# Altium schematic symbol library kmilo17pet-LT_OpAmp_LT1000.SchLib: 2280 symbols (part 31 of 79)
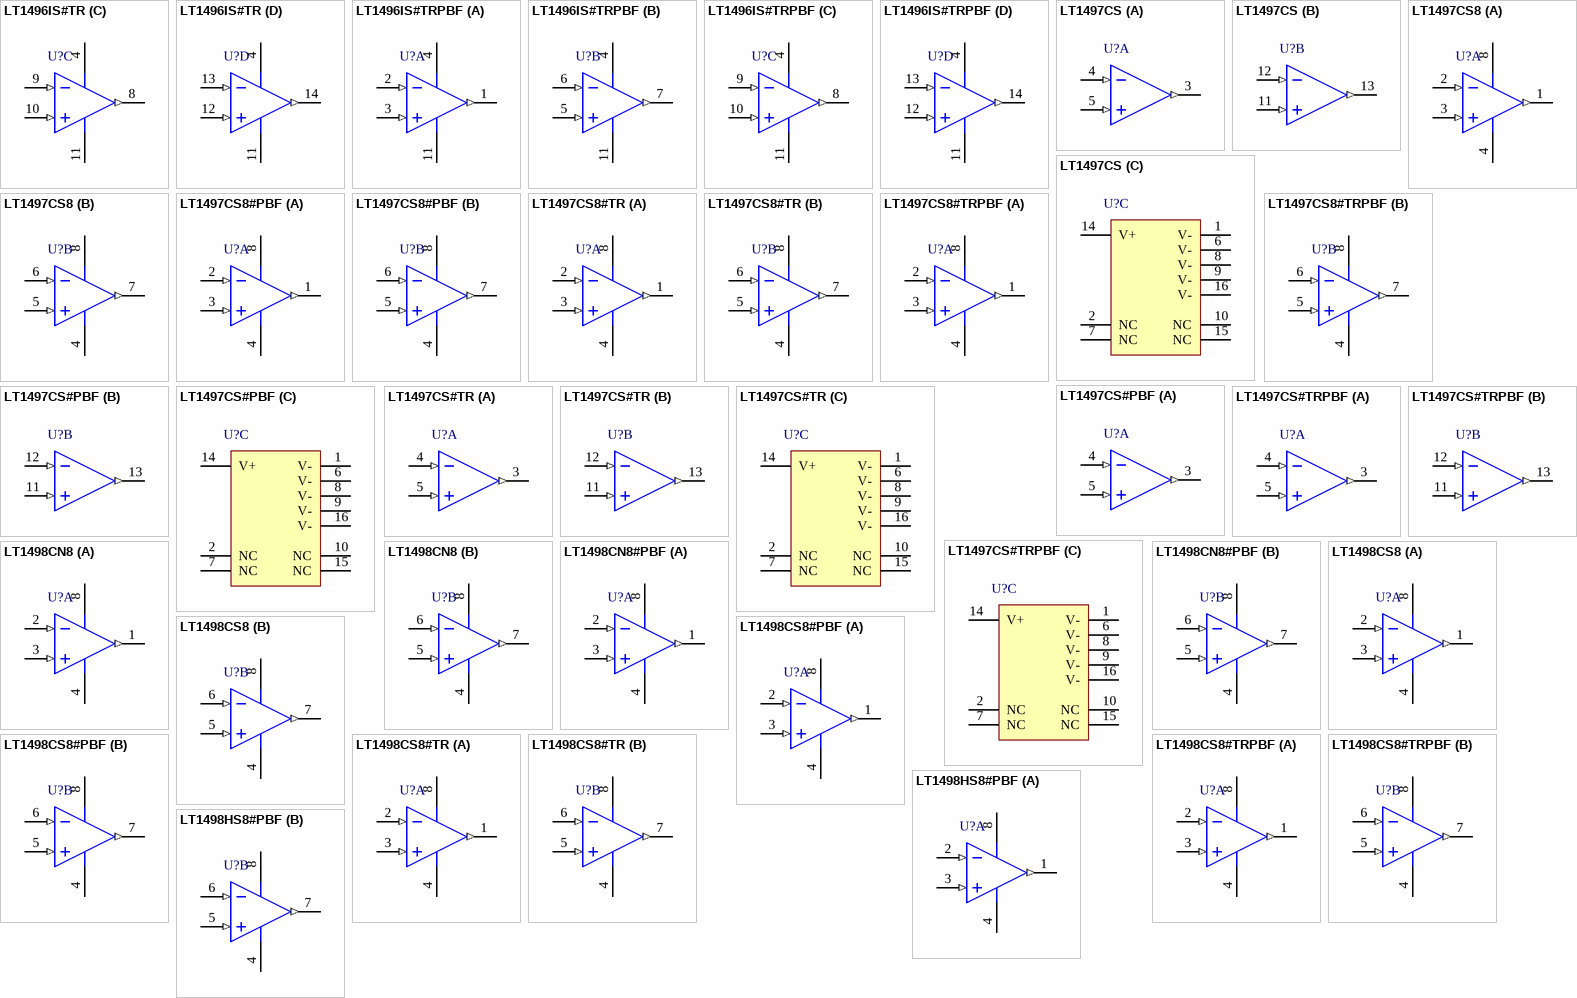
[diagram p135: symbols LT1496IS#TR to LT1498HS8#PBF]

## LT1497CS#PBF
designator U?
Dual Channel, 125 mA Output Current Feedback Amplifier, 59 MHz Typical GBW, 900 V/us Typical SR, 4 to 36 V, 16-Pin SOIC (S-16), Commerical, Pb-Free; Linear Technology Part Number: LT1497; Manufacturer: Linear Technology; PartNumber: LT1497CS#PBF; Channels (#): 2; GBW (MHz) Typical: 59; Is (mA) Typical: 6; SR (V/us) Typical: 900; Vos (mV) Typical: 3; Vs Max (V): 36; Vs Min (V): 4; PackageVersion: Rev G; PackageReference: LT-S-16; PackageDescription: 16-Lead Plastic Small Outline, Body 9.9 x 3.9 mm, Pitch 1.27 mm; Supplier 1: Digi-Key; Supplier Part Number 1: LT1497CS#PBF-ND; Supplier 2: Farnell; Supplier Part Number 2: 1330673; Supplier 3: Newark; Supplier Part Number 3: 57M4552; RoHS: Pb-Free; Type: CFA; Mounting Technology: Surface Mount; ComponentLink1Description: Manufacturer URL; ComponentLink1URL: http://www.linear.com/; ComponentLink2Description: Datasheet; ComponentLink2URL: http://cds.linear.com/docs/en/datasheet/1497f.pdf; ComponentLink3Description: Package Specification; ComponentLink3URL: http://cds.linear.com/docs/en/packaging/S16%2005-08-1610%20Rev%20G.pdf
footprint LT-S-16_N (SOP, 16-Leads, Body 9.9x3.9mm, Pitch 1.27mm, IPC Medium Density)
footprint LT-S-16_L (SOP, 16-Leads, Body 9.9x3.9mm, Pitch 1.27mm, IPC High Density)
footprint LT-S-16_M (SOP, 16-Leads, Body 9.9x3.9mm, Pitch 1.27mm, IPC Low Density)
part A pins: 3 OUT A (out), 4 -IN A (in), 5 +IN A (in)
part B pins: 11 +IN B (in), 12 -IN B (in), 13 OUT B (out)
part C pins: 1 V- (power), 2 NC, 6 V- (power), 7 NC, 8 V- (power), 9 V- (power), 10 NC, 14 V+ (power), 15 NC, 16 V- (power)

## LT1497CS#TR
designator U?
Dual Channel, 125 mA Output Current Feedback Amplifier, 59 MHz Typical GBW, 900 V/us Typical SR, 4 to 36 V, 16-Pin SOIC (S-16), Commerical, Reel; Linear Technology Part Number: LT1497; Manufacturer: Linear Technology; PartNumber: LT1497CS#TR; Channels (#): 2; GBW (MHz) Typical: 59; Is (mA) Typical: 6; SR (V/us) Typical: 900; Vos (mV) Typical: 3; Vs Max (V): 36; Vs Min (V): 4; PackageVersion: Rev G; PackageReference: LT-S-16; PackageDescription: 16-Lead Plastic Small Outline, Body 9.9 x 3.9 mm, Pitch 1.27 mm; Supplier 1: Digi-Key; Supplier Part Number 1: LT1497CS#TR-ND; Packing: Reel; Type: CFA; Mounting Technology: Surface Mount; ComponentLink1Description: Manufacturer URL; ComponentLink1URL: http://www.linear.com/; ComponentLink2Description: Datasheet; ComponentLink2URL: http://cds.linear.com/docs/en/datasheet/1497f.pdf; ComponentLink3Description: Package Specification; ComponentLink3URL: http://cds.linear.com/docs/en/packaging/S16%2005-08-1610%20Rev%20G.pdf
footprint LT-S-16_N (SOP, 16-Leads, Body 9.9x3.9mm, Pitch 1.27mm, IPC Medium Density)
footprint LT-S-16_L (SOP, 16-Leads, Body 9.9x3.9mm, Pitch 1.27mm, IPC High Density)
footprint LT-S-16_M (SOP, 16-Leads, Body 9.9x3.9mm, Pitch 1.27mm, IPC Low Density)
part A pins: 3 OUT A (out), 4 -IN A (in), 5 +IN A (in)
part B pins: 11 +IN B (in), 12 -IN B (in), 13 OUT B (out)
part C pins: 1 V- (power), 2 NC, 6 V- (power), 7 NC, 8 V- (power), 9 V- (power), 10 NC, 14 V+ (power), 15 NC, 16 V- (power)

## LT1497CS#TRPBF
designator U?
Dual Channel, 125 mA Output Current Feedback Amplifier, 59 MHz Typical GBW, 900 V/us Typical SR, 4 to 36 V, 16-Pin SOIC (S-16), Commerical, Pb-Free, Reel; Linear Technology Part Number: LT1497; Manufacturer: Linear Technology; PartNumber: LT1497CS#TRPBF; Channels (#): 2; GBW (MHz) Typical: 59; Is (mA) Typical: 6; SR (V/us) Typical: 900; Vos (mV) Typical: 3; Vs Max (V): 36; Vs Min (V): 4; PackageVersion: Rev G; PackageReference: LT-S-16; PackageDescription: 16-Lead Plastic Small Outline, Body 9.9 x 3.9 mm, Pitch 1.27 mm; Supplier 1: Digi-Key; Supplier Part Number 1: LT1497CS#TRPBF-ND; Packing: Reel; RoHS: Pb-Free; Type: CFA; Mounting Technology: Surface Mount; ComponentLink1Description: Manufacturer URL; ComponentLink1URL: http://www.linear.com/; ComponentLink2Description: Datasheet; ComponentLink2URL: http://cds.linear.com/docs/en/datasheet/1497f.pdf; ComponentLink3Description: Package Specification; ComponentLink3URL: http://cds.linear.com/docs/en/packaging/S16%2005-08-1610%20Rev%20G.pdf
footprint LT-S-16_N (SOP, 16-Leads, Body 9.9x3.9mm, Pitch 1.27mm, IPC Medium Density)
footprint LT-S-16_L (SOP, 16-Leads, Body 9.9x3.9mm, Pitch 1.27mm, IPC High Density)
footprint LT-S-16_M (SOP, 16-Leads, Body 9.9x3.9mm, Pitch 1.27mm, IPC Low Density)
part A pins: 3 OUT A (out), 4 -IN A (in), 5 +IN A (in)
part B pins: 11 +IN B (in), 12 -IN B (in), 13 OUT B (out)
part C pins: 1 V- (power), 2 NC, 6 V- (power), 7 NC, 8 V- (power), 9 V- (power), 10 NC, 14 V+ (power), 15 NC, 16 V- (power)

## LT1498CN8
designator U?
Dual Channel, Operational Amplifier, Stable with large C-load, 10.5 MHz Typical GBW, 4.5 V/us Typical SR, 2.2 to 36 V, 8-Pin DIP (N8-8), Commerical; Linear Technology Part Number: LT1498; Manufacturer: Linear Technology; PartNumber: LT1498CN8; Channels (#): 2; GBW (MHz) Typical: 10.5; Is (mA) Typical: 1.7; SR (V/us) Typical: 4.5; Vos (mV) Typical: 0.15; Vs Max (V): 36; Vs Min (V): 2.2; DatasheetVersion: Rev. G; PackageVersion: Rev I; PackageReference: LT-N8-8; PackageDescription: 8-Lead PDIP, Body 10.16 x 6.48 mm, Pitch 2.54 mm; Supplier 1: Digi-Key; Supplier Part Number 1: LT1498CN8-ND; Type: VFB; Mounting Technology: Surface Mount; ComponentLink1Description: Manufacturer URL; ComponentLink1URL: http://www.linear.com/; ComponentLink2Description: Datasheet; ComponentLink2URL: http://cds.linear.com/docs/en/datasheet/14989fg.pdf; ComponentLink3Description: Package Specification; ComponentLink3URL: http://cds.linear.com/docs/en/packaging/05081510_I_N8.pdf
footprint LT-N8-8 (DIP, 8-Leads, Body 10.16x6.48mm, Pitch 2.54mm)
pins on every part: 4 V- (power), 8 V+ (power)
part A pins: 1 OUT A (out), 2 -IN A (in), 3 +IN A (in)
part B pins: 5 +IN B (in), 6 -IN B (in), 7 OUT B (out)

## LT1498CN8#PBF
designator U?
Dual Channel, Operational Amplifier, Stable with large C-load, 10.5 MHz Typical GBW, 4.5 V/us Typical SR, 2.2 to 36 V, 8-Pin DIP (N8-8), Commerical, Pb-Free; Linear Technology Part Number: LT1498; Manufacturer: Linear Technology; PartNumber: LT1498CN8#PBF; Channels (#): 2; GBW (MHz) Typical: 10.5; Is (mA) Typical: 1.7; SR (V/us) Typical: 4.5; Vos (mV) Typical: 0.15; Vs Max (V): 36; Vs Min (V): 2.2; DatasheetVersion: Rev. G; PackageVersion: Rev I; PackageReference: LT-N8-8; PackageDescription: 8-Lead PDIP, Body 10.16 x 6.48 mm, Pitch 2.54 mm; Supplier 1: Digi-Key; Supplier Part Number 1: LT1498CN8#PBF-ND; Supplier 2: Farnell; Supplier Part Number 2: 1330674; Supplier 3: Newark; Supplier Part Number 3: 57M4560; RoHS: Pb-Free; Type: VFB; Mounting Technology: Through Hole; ComponentLink1Description: Manufacturer URL; ComponentLink1URL: http://www.linear.com/; ComponentLink2Description: Datasheet; ComponentLink2URL: http://cds.linear.com/docs/en/datasheet/14989fg.pdf; ComponentLink3Description: Package Specification; ComponentLink3URL: http://cds.linear.com/docs/en/packaging/05081510_I_N8.pdf
footprint LT-N8-8 (DIP, 8-Leads, Body 10.16x6.48mm, Pitch 2.54mm)
pins on every part: 4 V- (power), 8 V+ (power)
part A pins: 1 OUT A (out), 2 -IN A (in), 3 +IN A (in)
part B pins: 5 +IN B (in), 6 -IN B (in), 7 OUT B (out)

## LT1498CS8
designator U?
Dual Channel, Operational Amplifier, Stable with large C-load, 10.5 MHz Typical GBW, 4.5 V/us Typical SR, 2.2 to 36 V, 8-Pin SOIC (S8-8), Commercial; Linear Technology Part Number: LT1498; Manufacturer: Linear Technology; PartNumber: LT1498CS8; Channels (#): 2; GBW (MHz) Typical: 10.5; Is (mA) Typical: 1.7; SR (V/us) Typical: 4.5; Vos (mV) Typical: 0.15; Vs Max (V): 36; Vs Min (V): 2.2; DatasheetVersion: Rev. G; PackageVersion: Rev G; PackageReference: LT-S8-8; PackageDescription: 8-Pin Plastic Small Outline, Body 4.9 x 3.9 mm, Pitch 1.27 mm; Supplier 1: Digi-Key; Supplier Part Number 1: LT1498CS8-ND; Supplier 2: Newark; Supplier Part Number 2: 57M4561; Type: VFB; Mounting Technology: Surface Mount; ComponentLink1Description: Manufacturer URL; ComponentLink1URL: http://www.linear.com/; ComponentLink2Description: Datasheet; ComponentLink2URL: http://cds.linear.com/docs/en/datasheet/14989fg.pdf; ComponentLink3Description: Package Specification; ComponentLink3URL: http://cds.linear.com/docs/en/packaging/05081610_G_SO8.pdf
footprint LT-S8-8_N (SOIC, 8-Leads, Body 4.9x3.9mm, Pitch 1.27mm, IPC Medium Density)
footprint LT-S8-8_L (SOIC, 8-Leads, Body 4.9x3.9mm, Pitch 1.27mm, IPC High Density)
footprint LT-S8-8_M (SOIC, 8-Leads, Body 4.9x3.9mm, Pitch 1.27mm, IPC Low Density)
pins on every part: 4 V- (power), 8 V+ (power)
part A pins: 1 OUT A (out), 2 -IN A (in), 3 +IN A (in)
part B pins: 5 +IN B (in), 6 -IN B (in), 7 OUT B (out)

## LT1498CS8#PBF
designator U?
Dual Channel, Operational Amplifier, Stable with large C-load, 10.5 MHz Typical GBW, 4.5 V/us Typical SR, 2.2 to 36 V, 8-Pin SOIC (S8-8), Commercial, Pb-Free; Linear Technology Part Number: LT1498; Manufacturer: Linear Technology; PartNumber: LT1498CS8#PBF; Channels (#): 2; GBW (MHz) Typical: 10.5; Is (mA) Typical: 1.7; SR (V/us) Typical: 4.5; Vos (mV) Typical: 0.15; Vs Max (V): 36; Vs Min (V): 2.2; DatasheetVersion: Rev. G; PackageVersion: Rev G; PackageReference: LT-S8-8; PackageDescription: 8-Pin Plastic Small Outline, Body 4.9 x 3.9 mm, Pitch 1.27 mm; Supplier 1: Digi-Key; Supplier Part Number 1: LT1498CS8#PBF-ND; Supplier 2: Newark; Supplier Part Number 2: 57M4562; RoHS: Pb-Free; Type: VFB; Mounting Technology: Surface Mount; ComponentLink1Description: Manufacturer URL; ComponentLink1URL: http://www.linear.com/; ComponentLink2Description: Datasheet; ComponentLink2URL: http://cds.linear.com/docs/en/datasheet/14989fg.pdf; ComponentLink3Description: Package Specification; ComponentLink3URL: http://cds.linear.com/docs/en/packaging/05081610_G_SO8.pdf
footprint LT-S8-8_N (SOIC, 8-Leads, Body 4.9x3.9mm, Pitch 1.27mm, IPC Medium Density)
footprint LT-S8-8_L (SOIC, 8-Leads, Body 4.9x3.9mm, Pitch 1.27mm, IPC High Density)
footprint LT-S8-8_M (SOIC, 8-Leads, Body 4.9x3.9mm, Pitch 1.27mm, IPC Low Density)
pins on every part: 4 V- (power), 8 V+ (power)
part A pins: 1 OUT A (out), 2 -IN A (in), 3 +IN A (in)
part B pins: 5 +IN B (in), 6 -IN B (in), 7 OUT B (out)

## LT1498CS8#TR
designator U?
Dual Channel, Operational Amplifier, Stable with large C-load, 10.5 MHz Typical GBW, 4.5 V/us Typical SR, 2.2 to 36 V, 8-Pin SOIC (S8-8), Commercial, Reel; Linear Technology Part Number: LT1498; Manufacturer: Linear Technology; PartNumber: LT1498CS8#TR; Channels (#): 2; GBW (MHz) Typical: 10.5; Is (mA) Typical: 1.7; SR (V/us) Typical: 4.5; Vos (mV) Typical: 0.15; Vs Max (V): 36; Vs Min (V): 2.2; DatasheetVersion: Rev. G; PackageVersion: Rev G; PackageReference: LT-S8-8; PackageDescription: 8-Pin Plastic Small Outline, Body 4.9 x 3.9 mm, Pitch 1.27 mm; Supplier 1: Digi-Key; Supplier Part Number 1: LT1498CS8#TR-ND; Supplier 2: Newark; Supplier Part Number 2: 57M4563; Packing: Reel; Type: VFB; Mounting Technology: Surface Mount; ComponentLink1Description: Manufacturer URL; ComponentLink1URL: http://www.linear.com/; ComponentLink2Description: Datasheet; ComponentLink2URL: http://cds.linear.com/docs/en/datasheet/14989fg.pdf; ComponentLink3Description: Package Specification; ComponentLink3URL: http://cds.linear.com/docs/en/packaging/05081610_G_SO8.pdf
footprint LT-S8-8_N (SOIC, 8-Leads, Body 4.9x3.9mm, Pitch 1.27mm, IPC Medium Density)
footprint LT-S8-8_L (SOIC, 8-Leads, Body 4.9x3.9mm, Pitch 1.27mm, IPC High Density)
footprint LT-S8-8_M (SOIC, 8-Leads, Body 4.9x3.9mm, Pitch 1.27mm, IPC Low Density)
pins on every part: 4 V- (power), 8 V+ (power)
part A pins: 1 OUT A (out), 2 -IN A (in), 3 +IN A (in)
part B pins: 5 +IN B (in), 6 -IN B (in), 7 OUT B (out)

## LT1498CS8#TRPBF
designator U?
Dual Channel, Operational Amplifier, Stable with large C-load, 10.5 MHz Typical GBW, 4.5 V/us Typical SR, 2.2 to 36 V, 8-Pin SOIC (S8-8), Commercial, Pb-Free, Reel; Linear Technology Part Number: LT1498; Manufacturer: Linear Technology; PartNumber: LT1498CS8#TRPBF; Channels (#): 2; GBW (MHz) Typical: 10.5; Is (mA) Typical: 1.7; SR (V/us) Typical: 4.5; Vos (mV) Typical: 0.15; Vs Max (V): 36; Vs Min (V): 2.2; DatasheetVersion: Rev. G; PackageVersion: Rev G; PackageReference: LT-S8-8; PackageDescription: 8-Pin Plastic Small Outline, Body 4.9 x 3.9 mm, Pitch 1.27 mm; Supplier 1: Digi-Key; Supplier Part Number 1: LT1498CS8#TRPBF-ND; Supplier 2: Newark; Supplier Part Number 2: 57M4564; Packing: Reel; RoHS: Pb-Free; Type: VFB; Mounting Technology: Surface Mount; ComponentLink1Description: Manufacturer URL; ComponentLink1URL: http://www.linear.com/; ComponentLink2Description: Datasheet; ComponentLink2URL: http://cds.linear.com/docs/en/datasheet/14989fg.pdf; ComponentLink3Description: Package Specification; ComponentLink3URL: http://cds.linear.com/docs/en/packaging/05081610_G_SO8.pdf
footprint LT-S8-8_N (SOIC, 8-Leads, Body 4.9x3.9mm, Pitch 1.27mm, IPC Medium Density)
footprint LT-S8-8_L (SOIC, 8-Leads, Body 4.9x3.9mm, Pitch 1.27mm, IPC High Density)
footprint LT-S8-8_M (SOIC, 8-Leads, Body 4.9x3.9mm, Pitch 1.27mm, IPC Low Density)
pins on every part: 4 V- (power), 8 V+ (power)
part A pins: 1 OUT A (out), 2 -IN A (in), 3 +IN A (in)
part B pins: 5 +IN B (in), 6 -IN B (in), 7 OUT B (out)

## LT1498HS8#PBF
designator U?
Dual Channel, Operational Amplifier, Stable with large C-load, 10.5 MHz Typical GBW, 4.5 V/us Typical SR, 2.2 to 36 V, 8-Pin SOIC (S8-8), High Temperature / Automotive, Pb-Free; Linear Technology Part Number: LT1498; Manufacturer: Linear Technology; PartNumber: LT1498HS8#PBF; Channels (#): 2; GBW (MHz) Typical: 10.5; Is (mA) Typical: 1.7; SR (V/us) Typical: 4.5; Vos (mV) Typical: 0.15; Vs Max (V): 36; Vs Min (V): 2.2; DatasheetVersion: Rev. G; PackageVersion: Rev G; PackageReference: LT-S8-8; PackageDescription: 8-Pin Plastic Small Outline, Body 4.9 x 3.9 mm, Pitch 1.27 mm; Supplier 1: Digi-Key; Supplier Part Number 1: LT1498HS8#PBF-ND; Supplier 2: Newark; Supplier Part Number 2: 64R6808; RoHS: Pb-Free; Type: VFB; Mounting Technology: Surface Mount; ComponentLink1Description: Manufacturer URL; ComponentLink1URL: http://www.linear.com/; ComponentLink2Description: Datasheet; ComponentLink2URL: http://cds.linear.com/docs/en/datasheet/14989fg.pdf; ComponentLink3Description: Package Specification; ComponentLink3URL: http://cds.linear.com/docs/en/packaging/05081610_G_SO8.pdf
footprint LT-S8-8_N (SOIC, 8-Leads, Body 4.9x3.9mm, Pitch 1.27mm, IPC Medium Density)
footprint LT-S8-8_L (SOIC, 8-Leads, Body 4.9x3.9mm, Pitch 1.27mm, IPC High Density)
footprint LT-S8-8_M (SOIC, 8-Leads, Body 4.9x3.9mm, Pitch 1.27mm, IPC Low Density)
pins on every part: 4 V- (power), 8 V+ (power)
part A pins: 1 OUT A (out), 2 -IN A (in), 3 +IN A (in)
part B pins: 5 +IN B (in), 6 -IN B (in), 7 OUT B (out)

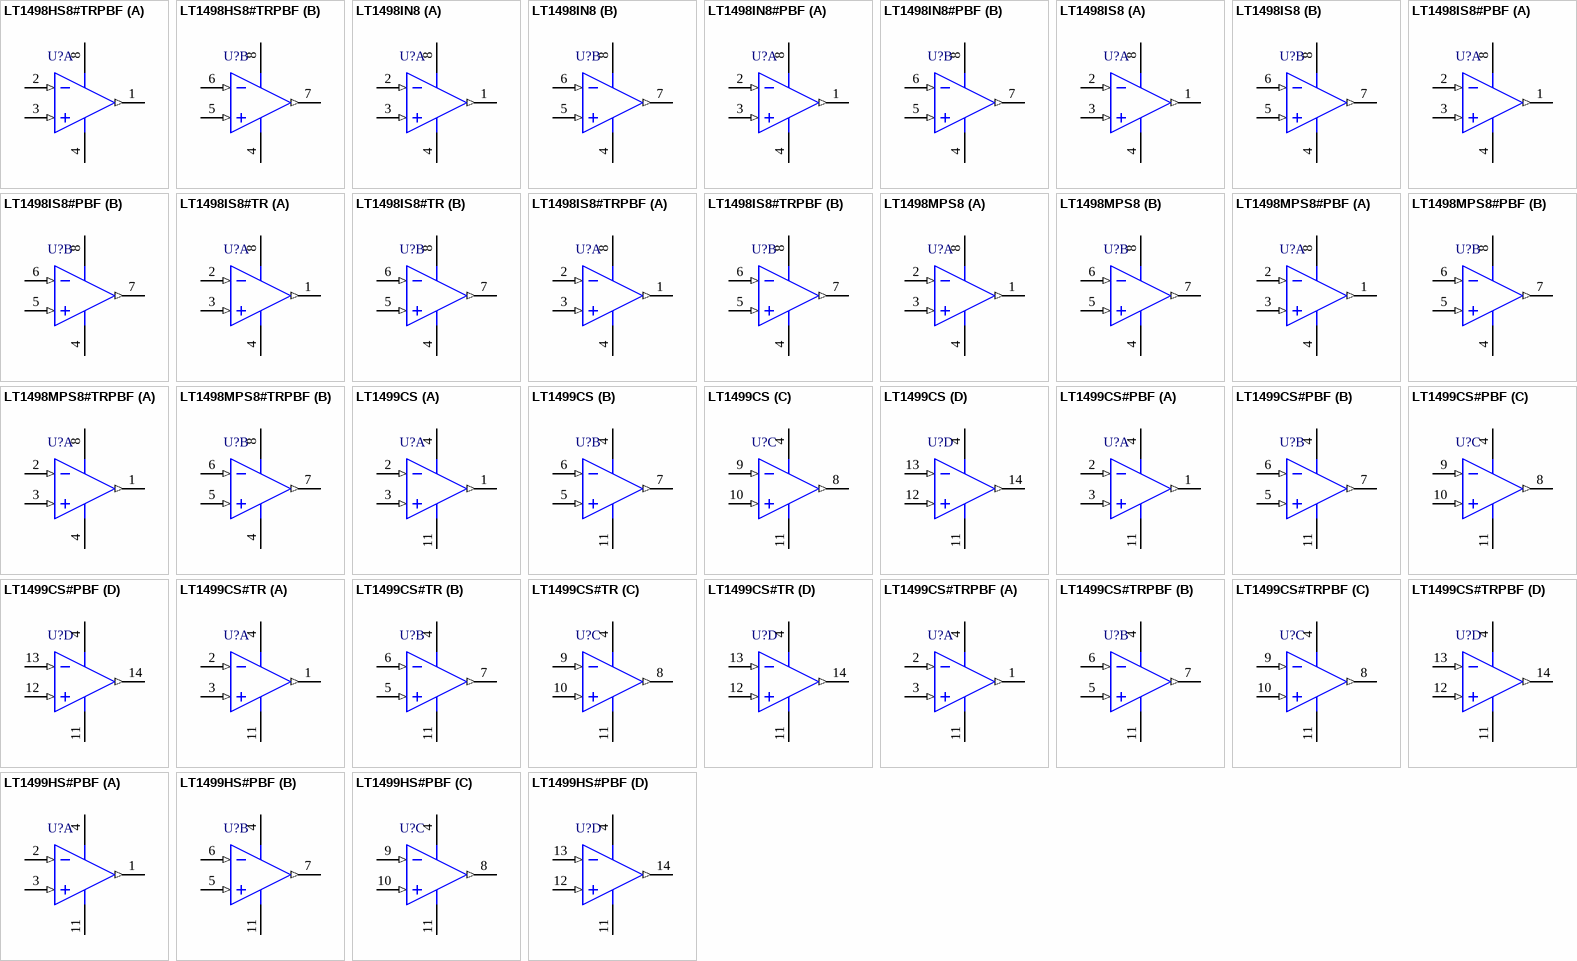
[diagram p53: symbols LT1498HS8#TRPBF to LT1499HS#PBF]

## LT1498HS8#TRPBF
designator U?
Dual Channel, Operational Amplifier, Stable with large C-load, 10.5 MHz Typical GBW, 4.5 V/us Typical SR, 2.2 to 36 V, 8-Pin SOIC (S8-8), High Temperature / Automotive, Pb-Free, Reel; Linear Technology Part Number: LT1498; Manufacturer: Linear Technology; PartNumber: LT1498HS8#TRPBF; Channels (#): 2; GBW (MHz) Typical: 10.5; Is (mA) Typical: 1.7; SR (V/us) Typical: 4.5; Vos (mV) Typical: 0.15; Vs Max (V): 36; Vs Min (V): 2.2; DatasheetVersion: Rev. G; PackageVersion: Rev G; PackageReference: LT-S8-8; PackageDescription: 8-Pin Plastic Small Outline, Body 4.9 x 3.9 mm, Pitch 1.27 mm; Supplier 1: Digi-Key; Supplier Part Number 1: LT1498HS8#TRPBF-ND; Supplier 2: Newark; Supplier Part Number 2: 64R6809; Packing: Reel; RoHS: Pb-Free; Type: VFB; Mounting Technology: Surface Mount; ComponentLink1Description: Manufacturer URL; ComponentLink1URL: http://www.linear.com/; ComponentLink2Description: Datasheet; ComponentLink2URL: http://cds.linear.com/docs/en/datasheet/14989fg.pdf; ComponentLink3Description: Package Specification; ComponentLink3URL: http://cds.linear.com/docs/en/packaging/05081610_G_SO8.pdf
footprint LT-S8-8_N (SOIC, 8-Leads, Body 4.9x3.9mm, Pitch 1.27mm, IPC Medium Density)
footprint LT-S8-8_L (SOIC, 8-Leads, Body 4.9x3.9mm, Pitch 1.27mm, IPC High Density)
footprint LT-S8-8_M (SOIC, 8-Leads, Body 4.9x3.9mm, Pitch 1.27mm, IPC Low Density)
pins on every part: 4 V- (power), 8 V+ (power)
part A pins: 1 OUT A (out), 2 -IN A (in), 3 +IN A (in)
part B pins: 5 +IN B (in), 6 -IN B (in), 7 OUT B (out)

## LT1498IN8
designator U?
Dual Channel, Operational Amplifier, Stable with large C-load, 10.5 MHz Typical GBW, 4.5 V/us Typical SR, 2.2 to 36 V, 8-Pin DIP (N8-8), Industrial; Linear Technology Part Number: LT1498; Manufacturer: Linear Technology; PartNumber: LT1498IN8; Channels (#): 2; GBW (MHz) Typical: 10.5; Is (mA) Typical: 1.7; SR (V/us) Typical: 4.5; Vos (mV) Typical: 0.15; Vs Max (V): 36; Vs Min (V): 2.2; DatasheetVersion: Rev. G; PackageVersion: Rev I; PackageReference: LT-N8-8; PackageDescription: 8-Lead PDIP, Body 10.16 x 6.48 mm, Pitch 2.54 mm; Supplier 1: Digi-Key; Supplier Part Number 1: LT1498IN8-ND; Type: VFB; Mounting Technology: Surface Mount; ComponentLink1Description: Manufacturer URL; ComponentLink1URL: http://www.linear.com/; ComponentLink2Description: Datasheet; ComponentLink2URL: http://cds.linear.com/docs/en/datasheet/14989fg.pdf; ComponentLink3Description: Package Specification; ComponentLink3URL: http://cds.linear.com/docs/en/packaging/05081510_I_N8.pdf
footprint LT-N8-8 (DIP, 8-Leads, Body 10.16x6.48mm, Pitch 2.54mm)
pins on every part: 4 V- (power), 8 V+ (power)
part A pins: 1 OUT A (out), 2 -IN A (in), 3 +IN A (in)
part B pins: 5 +IN B (in), 6 -IN B (in), 7 OUT B (out)

## LT1498IN8#PBF
designator U?
Dual Channel, Operational Amplifier, Stable with large C-load, 10.5 MHz Typical GBW, 4.5 V/us Typical SR, 2.2 to 36 V, 8-Pin DIP (N8-8), Industrial, Pb-Free; Linear Technology Part Number: LT1498; Manufacturer: Linear Technology; PartNumber: LT1498IN8#PBF; Channels (#): 2; GBW (MHz) Typical: 10.5; Is (mA) Typical: 1.7; SR (V/us) Typical: 4.5; Vos (mV) Typical: 0.15; Vs Max (V): 36; Vs Min (V): 2.2; DatasheetVersion: Rev. G; PackageVersion: Rev I; PackageReference: LT-N8-8; PackageDescription: 8-Lead PDIP, Body 10.16 x 6.48 mm, Pitch 2.54 mm; Supplier 1: Digi-Key; Supplier Part Number 1: LT1498IN8#PBF-ND; RoHS: Pb-Free; Type: VFB; Mounting Technology: Through Hole; ComponentLink1Description: Manufacturer URL; ComponentLink1URL: http://www.linear.com/; ComponentLink2Description: Datasheet; ComponentLink2URL: http://cds.linear.com/docs/en/datasheet/14989fg.pdf; ComponentLink3Description: Package Specification; ComponentLink3URL: http://cds.linear.com/docs/en/packaging/05081510_I_N8.pdf
footprint LT-N8-8 (DIP, 8-Leads, Body 10.16x6.48mm, Pitch 2.54mm)
pins on every part: 4 V- (power), 8 V+ (power)
part A pins: 1 OUT A (out), 2 -IN A (in), 3 +IN A (in)
part B pins: 5 +IN B (in), 6 -IN B (in), 7 OUT B (out)

## LT1498IS8
designator U?
Dual Channel, Operational Amplifier, Stable with large C-load, 10.5 MHz Typical GBW, 4.5 V/us Typical SR, 2.2 to 36 V, 8-Pin SOIC (S8-8), Industrial; Linear Technology Part Number: LT1498; Manufacturer: Linear Technology; PartNumber: LT1498IS8; Channels (#): 2; GBW (MHz) Typical: 10.5; Is (mA) Typical: 1.7; SR (V/us) Typical: 4.5; Vos (mV) Typical: 0.15; Vs Max (V): 36; Vs Min (V): 2.2; DatasheetVersion: Rev. G; PackageVersion: Rev G; PackageReference: LT-S8-8; PackageDescription: 8-Pin Plastic Small Outline, Body 4.9 x 3.9 mm, Pitch 1.27 mm; Supplier 1: Newark; Supplier Part Number 1: 57M4567; Type: VFB; Mounting Technology: Surface Mount; ComponentLink1Description: Manufacturer URL; ComponentLink1URL: http://www.linear.com/; ComponentLink2Description: Datasheet; ComponentLink2URL: http://cds.linear.com/docs/en/datasheet/14989fg.pdf; ComponentLink3Description: Package Specification; ComponentLink3URL: http://cds.linear.com/docs/en/packaging/05081610_G_SO8.pdf
footprint LT-S8-8_N (SOIC, 8-Leads, Body 4.9x3.9mm, Pitch 1.27mm, IPC Medium Density)
footprint LT-S8-8_L (SOIC, 8-Leads, Body 4.9x3.9mm, Pitch 1.27mm, IPC High Density)
footprint LT-S8-8_M (SOIC, 8-Leads, Body 4.9x3.9mm, Pitch 1.27mm, IPC Low Density)
pins on every part: 4 V- (power), 8 V+ (power)
part A pins: 1 OUT A (out), 2 -IN A (in), 3 +IN A (in)
part B pins: 5 +IN B (in), 6 -IN B (in), 7 OUT B (out)

## LT1498IS8#PBF
designator U?
Dual Channel, Operational Amplifier, Stable with large C-load, 10.5 MHz Typical GBW, 4.5 V/us Typical SR, 2.2 to 36 V, 8-Pin SOIC (S8-8), Industrial, Pb-Free; Linear Technology Part Number: LT1498; Manufacturer: Linear Technology; PartNumber: LT1498IS8#PBF; Channels (#): 2; GBW (MHz) Typical: 10.5; Is (mA) Typical: 1.7; SR (V/us) Typical: 4.5; Vos (mV) Typical: 0.15; Vs Max (V): 36; Vs Min (V): 2.2; DatasheetVersion: Rev. G; PackageVersion: Rev G; PackageReference: LT-S8-8; PackageDescription: 8-Pin Plastic Small Outline, Body 4.9 x 3.9 mm, Pitch 1.27 mm; Supplier 1: Digi-Key; Supplier Part Number 1: LT1498IS8#PBF-ND; Supplier 2: Farnell; Supplier Part Number 2: 1663440; Supplier 3: Newark; Supplier Part Number 3: 57M4568; RoHS: Pb-Free; Type: VFB; Mounting Technology: Surface Mount; ComponentLink1Description: Manufacturer URL; ComponentLink1URL: http://www.linear.com/; ComponentLink2Description: Datasheet; ComponentLink2URL: http://cds.linear.com/docs/en/datasheet/14989fg.pdf; ComponentLink3Description: Package Specification; ComponentLink3URL: http://cds.linear.com/docs/en/packaging/05081610_G_SO8.pdf
footprint LT-S8-8_N (SOIC, 8-Leads, Body 4.9x3.9mm, Pitch 1.27mm, IPC Medium Density)
footprint LT-S8-8_L (SOIC, 8-Leads, Body 4.9x3.9mm, Pitch 1.27mm, IPC High Density)
footprint LT-S8-8_M (SOIC, 8-Leads, Body 4.9x3.9mm, Pitch 1.27mm, IPC Low Density)
pins on every part: 4 V- (power), 8 V+ (power)
part A pins: 1 OUT A (out), 2 -IN A (in), 3 +IN A (in)
part B pins: 5 +IN B (in), 6 -IN B (in), 7 OUT B (out)

## LT1498IS8#TR
designator U?
Dual Channel, Operational Amplifier, Stable with large C-load, 10.5 MHz Typical GBW, 4.5 V/us Typical SR, 2.2 to 36 V, 8-Pin SOIC (S8-8), Industrial, Reel; Linear Technology Part Number: LT1498; Manufacturer: Linear Technology; PartNumber: LT1498IS8#TR; Channels (#): 2; GBW (MHz) Typical: 10.5; Is (mA) Typical: 1.7; SR (V/us) Typical: 4.5; Vos (mV) Typical: 0.15; Vs Max (V): 36; Vs Min (V): 2.2; DatasheetVersion: Rev. G; PackageVersion: Rev G; PackageReference: LT-S8-8; PackageDescription: 8-Pin Plastic Small Outline, Body 4.9 x 3.9 mm, Pitch 1.27 mm; Supplier 1: Digi-Key; Supplier Part Number 1: LT1498IS8TR-ND; Supplier 2: Newark; Supplier Part Number 2: 57M4569; Packing: Reel; Type: VFB; Mounting Technology: Surface Mount; ComponentLink1Description: Manufacturer URL; ComponentLink1URL: http://www.linear.com/; ComponentLink2Description: Datasheet; ComponentLink2URL: http://cds.linear.com/docs/en/datasheet/14989fg.pdf; ComponentLink3Description: Package Specification; ComponentLink3URL: http://cds.linear.com/docs/en/packaging/05081610_G_SO8.pdf
footprint LT-S8-8_N (SOIC, 8-Leads, Body 4.9x3.9mm, Pitch 1.27mm, IPC Medium Density)
footprint LT-S8-8_L (SOIC, 8-Leads, Body 4.9x3.9mm, Pitch 1.27mm, IPC High Density)
footprint LT-S8-8_M (SOIC, 8-Leads, Body 4.9x3.9mm, Pitch 1.27mm, IPC Low Density)
pins on every part: 4 V- (power), 8 V+ (power)
part A pins: 1 OUT A (out), 2 -IN A (in), 3 +IN A (in)
part B pins: 5 +IN B (in), 6 -IN B (in), 7 OUT B (out)

## LT1498IS8#TRPBF
designator U?
Dual Channel, Operational Amplifier, Stable with large C-load, 10.5 MHz Typical GBW, 4.5 V/us Typical SR, 2.2 to 36 V, 8-Pin SOIC (S8-8), Industrial, Pb-Free, Reel; Linear Technology Part Number: LT1498; Manufacturer: Linear Technology; PartNumber: LT1498IS8#TRPBF; Channels (#): 2; GBW (MHz) Typical: 10.5; Is (mA) Typical: 1.7; SR (V/us) Typical: 4.5; Vos (mV) Typical: 0.15; Vs Max (V): 36; Vs Min (V): 2.2; DatasheetVersion: Rev. G; PackageVersion: Rev G; PackageReference: LT-S8-8; PackageDescription: 8-Pin Plastic Small Outline, Body 4.9 x 3.9 mm, Pitch 1.27 mm; Supplier 1: Digi-Key; Supplier Part Number 1: LT1498IS8#TRPBF-ND; Supplier 2: Newark; Supplier Part Number 2: 57M4570; Packing: Reel; RoHS: Pb-Free; Type: VFB; Mounting Technology: Surface Mount; ComponentLink1Description: Manufacturer URL; ComponentLink1URL: http://www.linear.com/; ComponentLink2Description: Datasheet; ComponentLink2URL: http://cds.linear.com/docs/en/datasheet/14989fg.pdf; ComponentLink3Description: Package Specification; ComponentLink3URL: http://cds.linear.com/docs/en/packaging/05081610_G_SO8.pdf
footprint LT-S8-8_N (SOIC, 8-Leads, Body 4.9x3.9mm, Pitch 1.27mm, IPC Medium Density)
footprint LT-S8-8_L (SOIC, 8-Leads, Body 4.9x3.9mm, Pitch 1.27mm, IPC High Density)
footprint LT-S8-8_M (SOIC, 8-Leads, Body 4.9x3.9mm, Pitch 1.27mm, IPC Low Density)
pins on every part: 4 V- (power), 8 V+ (power)
part A pins: 1 OUT A (out), 2 -IN A (in), 3 +IN A (in)
part B pins: 5 +IN B (in), 6 -IN B (in), 7 OUT B (out)

## LT1498MPS8
designator U?
Dual Channel, Operational Amplifier, Stable with large C-load, 10.5 MHz Typical GBW, 4.5 V/us Typical SR, 2.2 to 36 V, 8-Pin SOIC (S8-8), Military Plastic; Linear Technology Part Number: LT1498; Manufacturer: Linear Technology; PartNumber: LT1498MPS8; Channels (#): 2; GBW (MHz) Typical: 10.5; Is (mA) Typical: 1.7; SR (V/us) Typical: 4.5; Vos (mV) Typical: 0.15; Vs Max (V): 36; Vs Min (V): 2.2; DatasheetVersion: Rev. G; PackageVersion: Rev G; PackageReference: LT-S8-8; PackageDescription: 8-Pin Plastic Small Outline, Body 4.9 x 3.9 mm, Pitch 1.27 mm; Type: VFB; Mounting Technology: Surface Mount; ComponentLink1Description: Manufacturer URL; ComponentLink1URL: http://www.linear.com/; ComponentLink2Description: Datasheet; ComponentLink2URL: http://cds.linear.com/docs/en/datasheet/14989fg.pdf; ComponentLink3Description: Package Specification; ComponentLink3URL: http://cds.linear.com/docs/en/packaging/05081610_G_SO8.pdf
footprint LT-S8-8_N (SOIC, 8-Leads, Body 4.9x3.9mm, Pitch 1.27mm, IPC Medium Density)
footprint LT-S8-8_L (SOIC, 8-Leads, Body 4.9x3.9mm, Pitch 1.27mm, IPC High Density)
footprint LT-S8-8_M (SOIC, 8-Leads, Body 4.9x3.9mm, Pitch 1.27mm, IPC Low Density)
pins on every part: 4 V- (power), 8 V+ (power)
part A pins: 1 OUT A (out), 2 -IN A (in), 3 +IN A (in)
part B pins: 5 +IN B (in), 6 -IN B (in), 7 OUT B (out)

## LT1498MPS8#PBF
designator U?
Dual Channel, Operational Amplifier, Stable with large C-load, 10.5 MHz Typical GBW, 4.5 V/us Typical SR, 2.2 to 36 V, 8-Pin SOIC (S8-8), Military Plastic, Pb-Free; Linear Technology Part Number: LT1498; Manufacturer: Linear Technology; PartNumber: LT1498MPS8#PBF; Channels (#): 2; GBW (MHz) Typical: 10.5; Is (mA) Typical: 1.7; SR (V/us) Typical: 4.5; Vos (mV) Typical: 0.15; Vs Max (V): 36; Vs Min (V): 2.2; DatasheetVersion: Rev. G; PackageVersion: Rev G; PackageReference: LT-S8-8; PackageDescription: 8-Pin Plastic Small Outline, Body 4.9 x 3.9 mm, Pitch 1.27 mm; Supplier 1: Digi-Key; Supplier Part Number 1: LT1498MPS8#PBF-ND; Supplier 2: Newark; Supplier Part Number 2: 24R6650; RoHS: Pb-Free; Type: VFB; Mounting Technology: Surface Mount; ComponentLink1Description: Manufacturer URL; ComponentLink1URL: http://www.linear.com/; ComponentLink2Description: Datasheet; ComponentLink2URL: http://cds.linear.com/docs/en/datasheet/14989fg.pdf; ComponentLink3Description: Package Specification; ComponentLink3URL: http://cds.linear.com/docs/en/packaging/05081610_G_SO8.pdf
footprint LT-S8-8_N (SOIC, 8-Leads, Body 4.9x3.9mm, Pitch 1.27mm, IPC Medium Density)
footprint LT-S8-8_L (SOIC, 8-Leads, Body 4.9x3.9mm, Pitch 1.27mm, IPC High Density)
footprint LT-S8-8_M (SOIC, 8-Leads, Body 4.9x3.9mm, Pitch 1.27mm, IPC Low Density)
pins on every part: 4 V- (power), 8 V+ (power)
part A pins: 1 OUT A (out), 2 -IN A (in), 3 +IN A (in)
part B pins: 5 +IN B (in), 6 -IN B (in), 7 OUT B (out)

## LT1498MPS8#TRPBF
designator U?
Dual Channel, Operational Amplifier, Stable with large C-load, 10.5 MHz Typical GBW, 4.5 V/us Typical SR, 2.2 to 36 V, 8-Pin SOIC (S8-8), Military Plastic, Pb-Free, Reel; Linear Technology Part Number: LT1498; Manufacturer: Linear Technology; PartNumber: LT1498MPS8#TRPBF; Channels (#): 2; GBW (MHz) Typical: 10.5; Is (mA) Typical: 1.7; SR (V/us) Typical: 4.5; Vos (mV) Typical: 0.15; Vs Max (V): 36; Vs Min (V): 2.2; DatasheetVersion: Rev. G; PackageVersion: Rev G; PackageReference: LT-S8-8; PackageDescription: 8-Pin Plastic Small Outline, Body 4.9 x 3.9 mm, Pitch 1.27 mm; Supplier 1: Digi-Key; Supplier Part Number 1: LT1498MPS8#TRPBF-ND; Packing: Reel; RoHS: Pb-Free; Type: VFB; Mounting Technology: Surface Mount; ComponentLink1Description: Manufacturer URL; ComponentLink1URL: http://www.linear.com/; ComponentLink2Description: Datasheet; ComponentLink2URL: http://cds.linear.com/docs/en/datasheet/14989fg.pdf; ComponentLink3Description: Package Specification; ComponentLink3URL: http://cds.linear.com/docs/en/packaging/05081610_G_SO8.pdf
footprint LT-S8-8_N (SOIC, 8-Leads, Body 4.9x3.9mm, Pitch 1.27mm, IPC Medium Density)
footprint LT-S8-8_L (SOIC, 8-Leads, Body 4.9x3.9mm, Pitch 1.27mm, IPC High Density)
footprint LT-S8-8_M (SOIC, 8-Leads, Body 4.9x3.9mm, Pitch 1.27mm, IPC Low Density)
pins on every part: 4 V- (power), 8 V+ (power)
part A pins: 1 OUT A (out), 2 -IN A (in), 3 +IN A (in)
part B pins: 5 +IN B (in), 6 -IN B (in), 7 OUT B (out)

## LT1499CS
designator U?
Quad Channel, Operational Amplifier, Stable with large C-load, 10.5 MHz Typical GBW, 4.5 V/us Typical SR, 2.2 to 36 V, 14-Pin SOIC (S-14), Commerical; Linear Technology Part Number: LT1499; Manufacturer: Linear Technology; PartNumber: LT1499CS; Channels (#): 4; GBW (MHz) Typical: 10.5; Is (mA) Typical: 1.7; SR (V/us) Typical: 4.5; Vos (mV) Typical: 0.15; Vs Max (V): 36; Vs Min (V): 2.2; DatasheetVersion: Rev. G; PackageVersion: Rev G; PackageReference: LT-S-14; PackageDescription: 14-Lead Plastic Small Outline, Body 8.65 x 3.90 mm, Pitch 1.27 mm; Supplier 1: Digi-Key; Supplier Part Number 1: LT1499CS-ND; Supplier 2: Newark; Supplier Part Number 2: 57M4571; Type: VFB; Mounting Technology: Surface Mount; ComponentLink1Description: Manufacturer URL; ComponentLink1URL: http://www.linear.com/; ComponentLink2Description: Datasheet; ComponentLink2URL: http://cds.linear.com/docs/en/datasheet/14989fg.pdf; ComponentLink3Description: Package Specification; ComponentLink3URL: http://cds.linear.com/docs/en/packaging/05081610_G_S14.pdf
footprint LT-S-14_N (SOIC, 14-Leads, Body 8.65x3.90mm, Pitch 1.27mm, IPC Medium Density)
footprint LT-S-14_L (SOIC, 14-Leads, Body 8.65x3.90mm, Pitch 1.27mm, IPC High Density)
footprint LT-S-14_M (SOIC, 14-Leads, Body 8.65x3.90mm, Pitch 1.27mm, IPC Low Density)
pins on every part: 4 V+ (power), 11 V- (power)
part A pins: 1 OUT A (out), 2 -IN A (in), 3 +IN A (in)
part B pins: 5 +IN B (in), 6 -IN B (in), 7 OUT B (out)
part C pins: 8 OUT C (out), 9 -IN C (in), 10 +IN C (in)
part D pins: 12 +IN D (in), 13 -IN D (in), 14 OUT D (out)

## LT1499CS#PBF
designator U?
Quad Channel, Operational Amplifier, Stable with large C-load, 10.5 MHz Typical GBW, 4.5 V/us Typical SR, 2.2 to 36 V, 14-Pin SOIC (S-14), Commerical, Pb-Free; Linear Technology Part Number: LT1499; Manufacturer: Linear Technology; PartNumber: LT1499CS#PBF; Channels (#): 4; GBW (MHz) Typical: 10.5; Is (mA) Typical: 1.7; SR (V/us) Typical: 4.5; Vos (mV) Typical: 0.15; Vs Max (V): 36; Vs Min (V): 2.2; DatasheetVersion: Rev. G; PackageVersion: Rev G; PackageReference: LT-S-14; PackageDescription: 14-Lead Plastic Small Outline, Body 8.65 x 3.90 mm, Pitch 1.27 mm; Supplier 1: Digi-Key; Supplier Part Number 1: LT1499CS#PBF-ND; Supplier 2: Farnell; Supplier Part Number 2: 1663441; Supplier 3: Newark; Supplier Part Number 3: 57M4572; RoHS: Pb-Free; Type: VFB; Mounting Technology: Surface Mount; ComponentLink1Description: Manufacturer URL; ComponentLink1URL: http://www.linear.com/; ComponentLink2Description: Datasheet; ComponentLink2URL: http://cds.linear.com/docs/en/datasheet/14989fg.pdf; ComponentLink3Description: Package Specification; ComponentLink3URL: http://cds.linear.com/docs/en/packaging/05081610_G_S14.pdf
footprint LT-S-14_N (SOIC, 14-Leads, Body 8.65x3.90mm, Pitch 1.27mm, IPC Medium Density)
footprint LT-S-14_L (SOIC, 14-Leads, Body 8.65x3.90mm, Pitch 1.27mm, IPC High Density)
footprint LT-S-14_M (SOIC, 14-Leads, Body 8.65x3.90mm, Pitch 1.27mm, IPC Low Density)
pins on every part: 4 V+ (power), 11 V- (power)
part A pins: 1 OUT A (out), 2 -IN A (in), 3 +IN A (in)
part B pins: 5 +IN B (in), 6 -IN B (in), 7 OUT B (out)
part C pins: 8 OUT C (out), 9 -IN C (in), 10 +IN C (in)
part D pins: 12 +IN D (in), 13 -IN D (in), 14 OUT D (out)

## LT1499CS#TR
designator U?
Quad Channel, Operational Amplifier, Stable with large C-load, 10.5 MHz Typical GBW, 4.5 V/us Typical SR, 2.2 to 36 V, 14-Pin SOIC (S-14), Commerical, Reel; Linear Technology Part Number: LT1499; Manufacturer: Linear Technology; PartNumber: LT1499CS#TR; Channels (#): 4; GBW (MHz) Typical: 10.5; Is (mA) Typical: 1.7; SR (V/us) Typical: 4.5; Vos (mV) Typical: 0.15; Vs Max (V): 36; Vs Min (V): 2.2; DatasheetVersion: Rev. G; PackageVersion: Rev G; PackageReference: LT-S-14; PackageDescription: 14-Lead Plastic Small Outline, Body 8.65 x 3.90 mm, Pitch 1.27 mm; Supplier 1: Digi-Key; Supplier Part Number 1: LT1499CS#TR-ND; Packing: Reel; Type: VFB; Mounting Technology: Surface Mount; ComponentLink1Description: Manufacturer URL; ComponentLink1URL: http://www.linear.com/; ComponentLink2Description: Datasheet; ComponentLink2URL: http://cds.linear.com/docs/en/datasheet/14989fg.pdf; ComponentLink3Description: Package Specification; ComponentLink3URL: http://cds.linear.com/docs/en/packaging/05081610_G_S14.pdf
footprint LT-S-14_N (SOIC, 14-Leads, Body 8.65x3.90mm, Pitch 1.27mm, IPC Medium Density)
footprint LT-S-14_L (SOIC, 14-Leads, Body 8.65x3.90mm, Pitch 1.27mm, IPC High Density)
footprint LT-S-14_M (SOIC, 14-Leads, Body 8.65x3.90mm, Pitch 1.27mm, IPC Low Density)
pins on every part: 4 V+ (power), 11 V- (power)
part A pins: 1 OUT A (out), 2 -IN A (in), 3 +IN A (in)
part B pins: 5 +IN B (in), 6 -IN B (in), 7 OUT B (out)
part C pins: 8 OUT C (out), 9 -IN C (in), 10 +IN C (in)
part D pins: 12 +IN D (in), 13 -IN D (in), 14 OUT D (out)

## LT1499CS#TRPBF
designator U?
Quad Channel, Operational Amplifier, Stable with large C-load, 10.5 MHz Typical GBW, 4.5 V/us Typical SR, 2.2 to 36 V, 14-Pin SOIC (S-14), Commerical, Pb-Free, Reel; Linear Technology Part Number: LT1499; Manufacturer: Linear Technology; PartNumber: LT1499CS#TRPBF; Channels (#): 4; GBW (MHz) Typical: 10.5; Is (mA) Typical: 1.7; SR (V/us) Typical: 4.5; Vos (mV) Typical: 0.15; Vs Max (V): 36; Vs Min (V): 2.2; DatasheetVersion: Rev. G; PackageVersion: Rev G; PackageReference: LT-S-14; PackageDescription: 14-Lead Plastic Small Outline, Body 8.65 x 3.90 mm, Pitch 1.27 mm; Supplier 1: Digi-Key; Supplier Part Number 1: LT1499CS#TRPBF-ND; Supplier 2: Newark; Supplier Part Number 2: 57M4574; Packing: Reel; RoHS: Pb-Free; Type: VFB; Mounting Technology: Surface Mount; ComponentLink1Description: Manufacturer URL; ComponentLink1URL: http://www.linear.com/; ComponentLink2Description: Datasheet; ComponentLink2URL: http://cds.linear.com/docs/en/datasheet/14989fg.pdf; ComponentLink3Description: Package Specification; ComponentLink3URL: http://cds.linear.com/docs/en/packaging/05081610_G_S14.pdf
footprint LT-S-14_N (SOIC, 14-Leads, Body 8.65x3.90mm, Pitch 1.27mm, IPC Medium Density)
footprint LT-S-14_L (SOIC, 14-Leads, Body 8.65x3.90mm, Pitch 1.27mm, IPC High Density)
footprint LT-S-14_M (SOIC, 14-Leads, Body 8.65x3.90mm, Pitch 1.27mm, IPC Low Density)
pins on every part: 4 V+ (power), 11 V- (power)
part A pins: 1 OUT A (out), 2 -IN A (in), 3 +IN A (in)
part B pins: 5 +IN B (in), 6 -IN B (in), 7 OUT B (out)
part C pins: 8 OUT C (out), 9 -IN C (in), 10 +IN C (in)
part D pins: 12 +IN D (in), 13 -IN D (in), 14 OUT D (out)

## LT1499HS#PBF
designator U?
Quad Channel, Operational Amplifier, Stable with large C-load, 10.5 MHz Typical GBW, 4.5 V/us Typical SR, 2.2 to 36 V, 14-Pin SOIC (S-14), High Temperature / Automotive, Pb-Free; Linear Technology Part Number: LT1499; Manufacturer: Linear Technology; PartNumber: LT1499HS#PBF; Channels (#): 4; GBW (MHz) Typical: 10.5; Is (mA) Typical: 1.7; SR (V/us) Typical: 4.5; Vos (mV) Typical: 0.15; Vs Max (V): 36; Vs Min (V): 2.2; DatasheetVersion: Rev. G; PackageVersion: Rev G; PackageReference: LT-S-14; PackageDescription: 14-Lead Plastic Small Outline, Body 8.65 x 3.90 mm, Pitch 1.27 mm; Supplier 1: Digi-Key; Supplier Part Number 1: LT1499HS#PBF-ND; Supplier 2: Newark; Supplier Part Number 2: 64R6810; RoHS: Pb-Free; Type: VFB; Mounting Technology: Surface Mount; ComponentLink1Description: Manufacturer URL; ComponentLink1URL: http://www.linear.com/; ComponentLink2Description: Datasheet; ComponentLink2URL: http://cds.linear.com/docs/en/datasheet/14989fg.pdf; ComponentLink3Description: Package Specification; ComponentLink3URL: http://cds.linear.com/docs/en/packaging/05081610_G_S14.pdf
footprint LT-S-14_N (SOIC, 14-Leads, Body 8.65x3.90mm, Pitch 1.27mm, IPC Medium Density)
footprint LT-S-14_L (SOIC, 14-Leads, Body 8.65x3.90mm, Pitch 1.27mm, IPC High Density)
footprint LT-S-14_M (SOIC, 14-Leads, Body 8.65x3.90mm, Pitch 1.27mm, IPC Low Density)
pins on every part: 4 V+ (power), 11 V- (power)
part A pins: 1 OUT A (out), 2 -IN A (in), 3 +IN A (in)
part B pins: 5 +IN B (in), 6 -IN B (in), 7 OUT B (out)
part C pins: 8 OUT C (out), 9 -IN C (in), 10 +IN C (in)
part D pins: 12 +IN D (in), 13 -IN D (in), 14 OUT D (out)

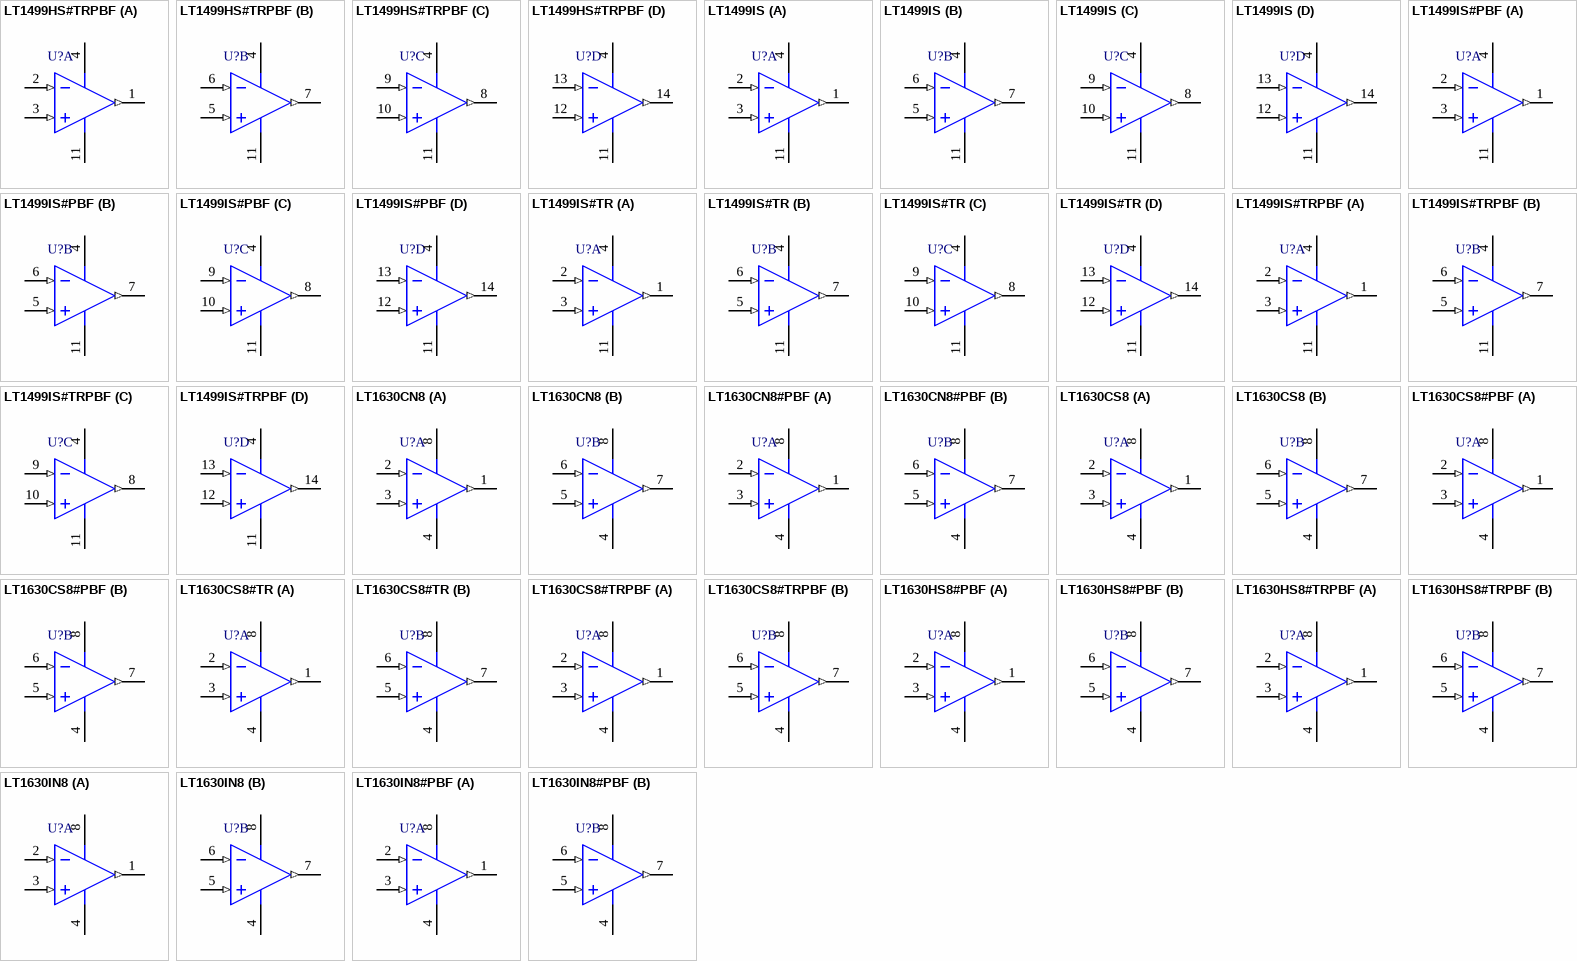
[diagram p54: symbols LT1499HS#TRPBF to LT1630IN8#PBF]

## LT1499HS#TRPBF
designator U?
Quad Channel, Operational Amplifier, Stable with large C-load, 10.5 MHz Typical GBW, 4.5 V/us Typical SR, 2.2 to 36 V, 14-Pin SOIC (S-14), High Temperature / Automotive, Pb-Free, Reel; Linear Technology Part Number: LT1499; Manufacturer: Linear Technology; PartNumber: LT1499HS#TRPBF; Channels (#): 4; GBW (MHz) Typical: 10.5; Is (mA) Typical: 1.7; SR (V/us) Typical: 4.5; Vos (mV) Typical: 0.15; Vs Max (V): 36; Vs Min (V): 2.2; DatasheetVersion: Rev. G; PackageVersion: Rev G; PackageReference: LT-S-14; PackageDescription: 14-Lead Plastic Small Outline, Body 8.65 x 3.90 mm, Pitch 1.27 mm; Supplier 1: Digi-Key; Supplier Part Number 1: LT1499HS#TRPBF-ND; Packing: Reel; RoHS: Pb-Free; Type: VFB; Mounting Technology: Surface Mount; ComponentLink1Description: Manufacturer URL; ComponentLink1URL: http://www.linear.com/; ComponentLink2Description: Datasheet; ComponentLink2URL: http://cds.linear.com/docs/en/datasheet/14989fg.pdf; ComponentLink3Description: Package Specification; ComponentLink3URL: http://cds.linear.com/docs/en/packaging/05081610_G_S14.pdf
footprint LT-S-14_N (SOIC, 14-Leads, Body 8.65x3.90mm, Pitch 1.27mm, IPC Medium Density)
footprint LT-S-14_L (SOIC, 14-Leads, Body 8.65x3.90mm, Pitch 1.27mm, IPC High Density)
footprint LT-S-14_M (SOIC, 14-Leads, Body 8.65x3.90mm, Pitch 1.27mm, IPC Low Density)
pins on every part: 4 V+ (power), 11 V- (power)
part A pins: 1 OUT A (out), 2 -IN A (in), 3 +IN A (in)
part B pins: 5 +IN B (in), 6 -IN B (in), 7 OUT B (out)
part C pins: 8 OUT C (out), 9 -IN C (in), 10 +IN C (in)
part D pins: 12 +IN D (in), 13 -IN D (in), 14 OUT D (out)

## LT1499IS
designator U?
Quad Channel, Operational Amplifier, Stable with large C-load, 10.5 MHz Typical GBW, 4.5 V/us Typical SR, 2.2 to 36 V, 14-Pin SOIC (S-14), Industrial; Linear Technology Part Number: LT1499; Manufacturer: Linear Technology; PartNumber: LT1499IS; Channels (#): 4; GBW (MHz) Typical: 10.5; Is (mA) Typical: 1.7; SR (V/us) Typical: 4.5; Vos (mV) Typical: 0.15; Vs Max (V): 36; Vs Min (V): 2.2; DatasheetVersion: Rev. G; PackageVersion: Rev G; PackageReference: LT-S-14; PackageDescription: 14-Lead Plastic Small Outline, Body 8.65 x 3.90 mm, Pitch 1.27 mm; Supplier 1: Digi-Key; Supplier Part Number 1: LT1499IS-ND; Type: VFB; Mounting Technology: Surface Mount; ComponentLink1Description: Manufacturer URL; ComponentLink1URL: http://www.linear.com/; ComponentLink2Description: Datasheet; ComponentLink2URL: http://cds.linear.com/docs/en/datasheet/14989fg.pdf; ComponentLink3Description: Package Specification; ComponentLink3URL: http://cds.linear.com/docs/en/packaging/05081610_G_S14.pdf
footprint LT-S-14_N (SOIC, 14-Leads, Body 8.65x3.90mm, Pitch 1.27mm, IPC Medium Density)
footprint LT-S-14_L (SOIC, 14-Leads, Body 8.65x3.90mm, Pitch 1.27mm, IPC High Density)
footprint LT-S-14_M (SOIC, 14-Leads, Body 8.65x3.90mm, Pitch 1.27mm, IPC Low Density)
pins on every part: 4 V+ (power), 11 V- (power)
part A pins: 1 OUT A (out), 2 -IN A (in), 3 +IN A (in)
part B pins: 5 +IN B (in), 6 -IN B (in), 7 OUT B (out)
part C pins: 8 OUT C (out), 9 -IN C (in), 10 +IN C (in)
part D pins: 12 +IN D (in), 13 -IN D (in), 14 OUT D (out)

## LT1499IS#PBF
designator U?
Quad Channel, Operational Amplifier, Stable with large C-load, 10.5 MHz Typical GBW, 4.5 V/us Typical SR, 2.2 to 36 V, 14-Pin SOIC (S-14), Industrial, Pb-Free; Linear Technology Part Number: LT1499; Manufacturer: Linear Technology; PartNumber: LT1499IS#PBF; Channels (#): 4; GBW (MHz) Typical: 10.5; Is (mA) Typical: 1.7; SR (V/us) Typical: 4.5; Vos (mV) Typical: 0.15; Vs Max (V): 36; Vs Min (V): 2.2; DatasheetVersion: Rev. G; PackageVersion: Rev G; PackageReference: LT-S-14; PackageDescription: 14-Lead Plastic Small Outline, Body 8.65 x 3.90 mm, Pitch 1.27 mm; Supplier 1: Digi-Key; Supplier Part Number 1: LT1499IS#PBF-ND; Supplier 2: Farnell; Supplier Part Number 2: 1556461; Supplier 3: Newark; Supplier Part Number 3: 57M4576; RoHS: Pb-Free; Type: VFB; Mounting Technology: Surface Mount; ComponentLink1Description: Manufacturer URL; ComponentLink1URL: http://www.linear.com/; ComponentLink2Description: Datasheet; ComponentLink2URL: http://cds.linear.com/docs/en/datasheet/14989fg.pdf; ComponentLink3Description: Package Specification; ComponentLink3URL: http://cds.linear.com/docs/en/packaging/05081610_G_S14.pdf
footprint LT-S-14_N (SOIC, 14-Leads, Body 8.65x3.90mm, Pitch 1.27mm, IPC Medium Density)
footprint LT-S-14_L (SOIC, 14-Leads, Body 8.65x3.90mm, Pitch 1.27mm, IPC High Density)
footprint LT-S-14_M (SOIC, 14-Leads, Body 8.65x3.90mm, Pitch 1.27mm, IPC Low Density)
pins on every part: 4 V+ (power), 11 V- (power)
part A pins: 1 OUT A (out), 2 -IN A (in), 3 +IN A (in)
part B pins: 5 +IN B (in), 6 -IN B (in), 7 OUT B (out)
part C pins: 8 OUT C (out), 9 -IN C (in), 10 +IN C (in)
part D pins: 12 +IN D (in), 13 -IN D (in), 14 OUT D (out)

## LT1499IS#TR
designator U?
Quad Channel, Operational Amplifier, Stable with large C-load, 10.5 MHz Typical GBW, 4.5 V/us Typical SR, 2.2 to 36 V, 14-Pin SOIC (S-14), Industrial, Reel; Linear Technology Part Number: LT1499; Manufacturer: Linear Technology; PartNumber: LT1499IS#TR; Channels (#): 4; GBW (MHz) Typical: 10.5; Is (mA) Typical: 1.7; SR (V/us) Typical: 4.5; Vos (mV) Typical: 0.15; Vs Max (V): 36; Vs Min (V): 2.2; DatasheetVersion: Rev. G; PackageVersion: Rev G; PackageReference: LT-S-14; PackageDescription: 14-Lead Plastic Small Outline, Body 8.65 x 3.90 mm, Pitch 1.27 mm; Supplier 1: Digi-Key; Supplier Part Number 1: LT1499ISTR-ND; Packing: Reel; Type: VFB; Mounting Technology: Surface Mount; ComponentLink1Description: Manufacturer URL; ComponentLink1URL: http://www.linear.com/; ComponentLink2Description: Datasheet; ComponentLink2URL: http://cds.linear.com/docs/en/datasheet/14989fg.pdf; ComponentLink3Description: Package Specification; ComponentLink3URL: http://cds.linear.com/docs/en/packaging/05081610_G_S14.pdf
footprint LT-S-14_N (SOIC, 14-Leads, Body 8.65x3.90mm, Pitch 1.27mm, IPC Medium Density)
footprint LT-S-14_L (SOIC, 14-Leads, Body 8.65x3.90mm, Pitch 1.27mm, IPC High Density)
footprint LT-S-14_M (SOIC, 14-Leads, Body 8.65x3.90mm, Pitch 1.27mm, IPC Low Density)
pins on every part: 4 V+ (power), 11 V- (power)
part A pins: 1 OUT A (out), 2 -IN A (in), 3 +IN A (in)
part B pins: 5 +IN B (in), 6 -IN B (in), 7 OUT B (out)
part C pins: 8 OUT C (out), 9 -IN C (in), 10 +IN C (in)
part D pins: 12 +IN D (in), 13 -IN D (in), 14 OUT D (out)

## LT1499IS#TRPBF
designator U?
Quad Channel, Operational Amplifier, Stable with large C-load, 10.5 MHz Typical GBW, 4.5 V/us Typical SR, 2.2 to 36 V, 14-Pin SOIC (S-14), Industrial, Pb-Free, Reel; Linear Technology Part Number: LT1499; Manufacturer: Linear Technology; PartNumber: LT1499IS#TRPBF; Channels (#): 4; GBW (MHz) Typical: 10.5; Is (mA) Typical: 1.7; SR (V/us) Typical: 4.5; Vos (mV) Typical: 0.15; Vs Max (V): 36; Vs Min (V): 2.2; DatasheetVersion: Rev. G; PackageVersion: Rev G; PackageReference: LT-S-14; PackageDescription: 14-Lead Plastic Small Outline, Body 8.65 x 3.90 mm, Pitch 1.27 mm; Supplier 1: Digi-Key; Supplier Part Number 1: LT1499IS#TRPBF-ND; Packing: Reel; RoHS: Pb-Free; Type: VFB; Mounting Technology: Surface Mount; ComponentLink1Description: Manufacturer URL; ComponentLink1URL: http://www.linear.com/; ComponentLink2Description: Datasheet; ComponentLink2URL: http://cds.linear.com/docs/en/datasheet/14989fg.pdf; ComponentLink3Description: Package Specification; ComponentLink3URL: http://cds.linear.com/docs/en/packaging/05081610_G_S14.pdf
footprint LT-S-14_N (SOIC, 14-Leads, Body 8.65x3.90mm, Pitch 1.27mm, IPC Medium Density)
footprint LT-S-14_L (SOIC, 14-Leads, Body 8.65x3.90mm, Pitch 1.27mm, IPC High Density)
footprint LT-S-14_M (SOIC, 14-Leads, Body 8.65x3.90mm, Pitch 1.27mm, IPC Low Density)
pins on every part: 4 V+ (power), 11 V- (power)
part A pins: 1 OUT A (out), 2 -IN A (in), 3 +IN A (in)
part B pins: 5 +IN B (in), 6 -IN B (in), 7 OUT B (out)
part C pins: 8 OUT C (out), 9 -IN C (in), 10 +IN C (in)
part D pins: 12 +IN D (in), 13 -IN D (in), 14 OUT D (out)

## LT1630CN8
designator U?
Dual Channel, Low Distortion, High Speed Precision Operational Amplifier, RRIO, 30 MHz Typical GBW, 9.2 V/us Typical SR, 2.6 to 36 V, 8-Pin DIP (N8-8), Commercial; Linear Technology Part Number: LT1630; Manufacturer: Linear Technology; PartNumber: LT1630CN8; Channels (#): 2; GBW (MHz) Typical: 30; Is (mA) Typical: 3.5; SR (V/us) Typical: 9.2; Vos (mV) Guaranteed: 0.525; Vos (mV) Typical: 0.15; Vs Max (V): 36; Vs Min (V): 2.6; DatasheetVersion: Rev. A; PackageVersion: Rev I; PackageReference: LT-N8-8; PackageDescription: 8-Lead PDIP, Body 10.16 x 6.48 mm, Pitch 2.54 mm; Supplier 1: Digi-Key; Supplier Part Number 1: LT1630CN8-ND; Type: VFB; Mounting Technology: Surface Mount; ComponentLink1Description: Manufacturer URL; ComponentLink1URL: http://www.linear.com/; ComponentLink2Description: Datasheet; ComponentLink2URL: http://cds.linear.com/docs/en/datasheet/16301fa.pdf; ComponentLink3Description: Package Specification; ComponentLink3URL: http://cds.linear.com/docs/en/packaging/05081510_I_N8.pdf
footprint LT-N8-8 (DIP, 8-Leads, Body 10.16x6.48mm, Pitch 2.54mm)
pins on every part: 4 V- (power), 8 V+ (power)
part A pins: 1 OUT A (out), 2 -IN A (in), 3 +IN A (in)
part B pins: 5 +IN B (in), 6 -IN B (in), 7 OUT B (out)

## LT1630CN8#PBF
designator U?
Dual Channel, Low Distortion, High Speed Precision Operational Amplifier, RRIO, 30 MHz Typical GBW, 9.2 V/us Typical SR, 2.6 to 36 V, 8-Pin DIP (N8-8), Commercial, Pb-Free; Linear Technology Part Number: LT1630; Manufacturer: Linear Technology; PartNumber: LT1630CN8#PBF; Channels (#): 2; GBW (MHz) Typical: 30; Is (mA) Typical: 3.5; SR (V/us) Typical: 9.2; Vos (mV) Guaranteed: 0.525; Vos (mV) Typical: 0.15; Vs Max (V): 36; Vs Min (V): 2.6; DatasheetVersion: Rev. A; PackageVersion: Rev I; PackageReference: LT-N8-8; PackageDescription: 8-Lead PDIP, Body 10.16 x 6.48 mm, Pitch 2.54 mm; Supplier 1: Digi-Key; Supplier Part Number 1: LT1630CN8#PBF-ND; Supplier 2: Newark; Supplier Part Number 2: 57M5278; RoHS: Pb-Free; Type: VFB; Mounting Technology: Surface Mount; ComponentLink1Description: Manufacturer URL; ComponentLink1URL: http://www.linear.com/; ComponentLink2Description: Datasheet; ComponentLink2URL: http://cds.linear.com/docs/en/datasheet/16301fa.pdf; ComponentLink3Description: Package Specification; ComponentLink3URL: http://cds.linear.com/docs/en/packaging/05081510_I_N8.pdf
footprint LT-N8-8 (DIP, 8-Leads, Body 10.16x6.48mm, Pitch 2.54mm)
pins on every part: 4 V- (power), 8 V+ (power)
part A pins: 1 OUT A (out), 2 -IN A (in), 3 +IN A (in)
part B pins: 5 +IN B (in), 6 -IN B (in), 7 OUT B (out)

## LT1630CS8
designator U?
Dual Channel, Low Distortion, High Speed Precision Operational Amplifier, RRIO, 30 MHz Typical GBW, 9.2 V/us Typical SR, 2.6 to 36 V, 8-Pin SOIC (S8-8), Commercial; Linear Technology Part Number: LT1630; Manufacturer: Linear Technology; PartNumber: LT1630CS8; Channels (#): 2; GBW (MHz) Typical: 30; Is (mA) Typical: 3.5; SR (V/us) Typical: 9.2; Vos (mV) Guaranteed: 0.525; Vos (mV) Typical: 0.15; Vs Max (V): 36; Vs Min (V): 2.6; DatasheetVersion: Rev. A; PackageVersion: Rev G; PackageReference: LT-S8-8; PackageDescription: 8-Pin Plastic Small Outline, Body 4.9 x 3.9 mm, Pitch 1.27 mm; Supplier 1: Digi-Key; Supplier Part Number 1: LT1630CS8-ND; Type: VFB; Mounting Technology: Surface Mount; ComponentLink1Description: Manufacturer URL; ComponentLink1URL: http://www.linear.com/; ComponentLink2Description: Datasheet; ComponentLink2URL: http://cds.linear.com/docs/en/datasheet/16301fa.pdf; ComponentLink3Description: Package Specification; ComponentLink3URL: http://cds.linear.com/docs/en/packaging/05081610_G_SO8.pdf
footprint LT-S8-8_N (SOIC, 8-Leads, Body 4.9x3.9mm, Pitch 1.27mm, IPC Medium Density)
footprint LT-S8-8_L (SOIC, 8-Leads, Body 4.9x3.9mm, Pitch 1.27mm, IPC High Density)
footprint LT-S8-8_M (SOIC, 8-Leads, Body 4.9x3.9mm, Pitch 1.27mm, IPC Low Density)
pins on every part: 4 V- (power), 8 V+ (power)
part A pins: 1 OUT A (out), 2 -IN A (in), 3 +IN A (in)
part B pins: 5 +IN B (in), 6 -IN B (in), 7 OUT B (out)